# Altium schematic symbol library Components - 11.08.21 - 15.03.SchLib: 1 symbol
Pins are listed as number, name and electrical type; pins without a type are passive.

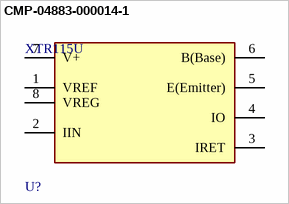
[diagram p0: symbol CMP-04883-000014-1]

## CMP-04883-000014-1
designator U?, comment XTR115U
IC CURRENT TRANSMITTER 8SOIC; Bandwidth: 380kHz; Interface: 2-Wire; Number of Circuits: 1; Output Current: 20mA; Max Supply Voltage: 36V; Min Supply Voltage: 7.5V; Quiescent Current: 200uA; Input Offset Voltage (Vos): 250uV; Output Type: Voltage; Input Bias Current: -35nA; Width: 3.91mm; Min Operating Temperature: -40°C; Lead Free: Lead Free; Height: 1.58mm; Weight: 0.002677oz; Max Operating Temperature: 85°C; Package Quantity: 75; Number of Pins: 8; Number of Channels: 1; Number of Amplifiers: 1; Radiation Hardening: No; Packaging: Rail/Tube; Case/Package: SOIC; Operating Supply Current: 20mA; Length: 4.9mm; Mount: Surface Mount; REACH SVHC: No SVHC; RoHS Compliant: Yes
footprint FP-D0008A-IPC_B
footprint FP-D0008A-IPC_A
footprint FP-D0008A-IPC_C
footprint FP-D0008A-MFG
pins: 1 VREF (power), 2 IIN, 3 IRET, 4 IO, 5 E(Emitter), 6 B(Base), 7 V+ (power), 8 VREG (power)